# Altium schematic symbol library LD1117S50CTR.SchLib: 1 symbol
Pins are listed as number, name and electrical type; pins without a type are passive.

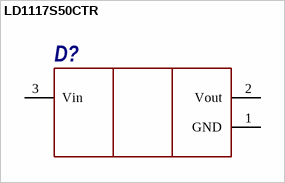
[diagram p0: symbol LD1117S50CTR]

## LD1117S50CTR
designator D?
pins: 1 GND, 2 Vout, 3 Vin